# Altium footprint library Molex_Picoblade_4pin_53047-04100.PcbLib: 1 footprints
Each footprint in its own frame and in the unit in brackets; x right, y up, seen from the top. Pads: shape width x height; smd on the part's side, far side on the other; paste and mask are expansions set on the pad; w line width, h text height; cw(c..) or ccw(c..) is an arc to the next point about the centre after c.
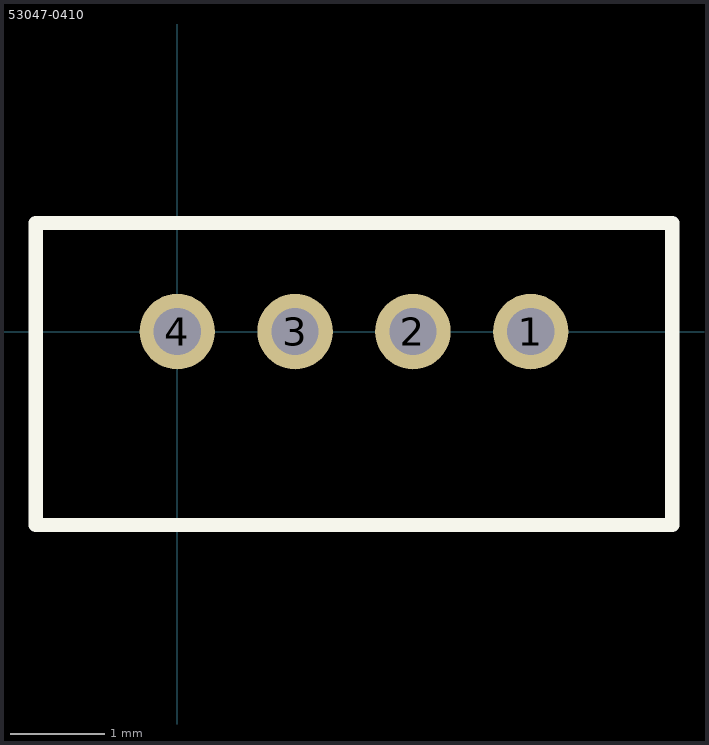
[diagram p0: the footprint, top view; thin cyan lines are the x and y axes]

## 53047-0410 [mm] "Molex_Picoblade_4pin_53047-0410"
height 4.2
pads (4):
  round 0.8 hole 0.5: 1(3.75,0) 2(2.5,0) 3(1.25,0) 4(0,0)
Top Overlay:
  lines w0.15: -1.5,-2.05 5.25,-2.05 5.25,1.15 -1.5,1.15 -1.5,-2.05
3D body "Molex_Picoblade_4pin_53047-0410_CAD.stp": height 4.23, standoff -2.27, extent -1.5,-2.05 5.25,1.15